# EAGLE library part 18024115401H (library WPME-CDIP)
WPME-CDIP Capacitive Digital Isolator Powered Characteristics Industrial standard package and pin configuration Integrated DC/DC power converter Signal transmission in high-speed applications (data rate up to 100 Mbps) High level of immunity to system noise (CMTI ±150 kV/µs) UL 1577 approval Low conducted and radiated EMI (compliant to EN55032 class B / CISPR-32) Applications Communication bus isolation Motor Control Industrial SMPS Test and measurement systems Microcontroller and DSP application Industrial automation Programmable logic controller (PLC) interfaces Battery management systems Solar inverters <https://www.we-online.com/components/media/o758938v209%20multi-parts-WPM-CDIP-18024015401H.jpg> Details see: www.we-online.com/en/components/products/DIGITAL-ISOLATORS-WPME-CDIP <www.we-online.com/catalog/DIGITAL-ISOLATORS-WPME-CDIP/?utm_source=eagle_model&utm_medium=description_link&utm_campaign=eisos_eagle> Updated by Ella Wu 2023-10-18 2023 (C) Wurth Elektronik
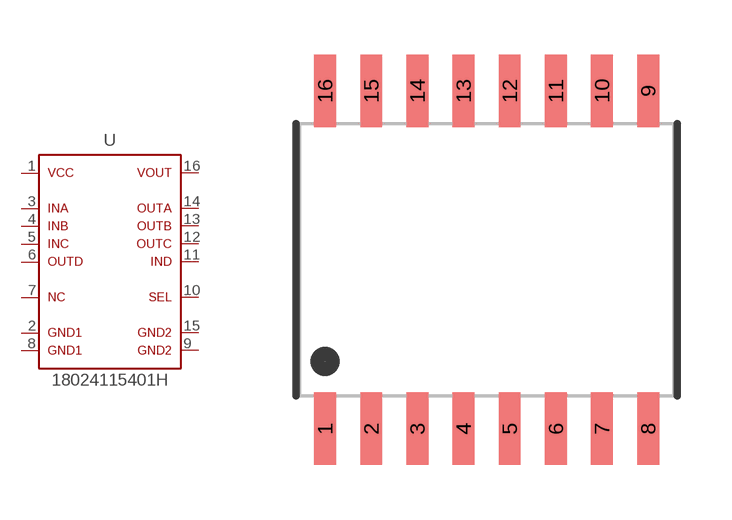
[diagram p1: symbol with the pads of WPME-CDIP_SOIC16; footprint WPME-CDIP_SOIC16]

Designator prefix U

## 18024115401H (CHANNEL-CONFIGURATION: 3/1; CMTI: 150kV/us; DATASHEET-URL: https://www.we-online.com/redexpert/spec/18024115401H?ae; DR: 100Mbps; MOUNT: SMT; PART-NUMBER: 18024115401H; TPLH-TPHL: 10ns; VALUE: 18024115401H; VCC-MAX: 5.5V; VCC-MIN: 3.15V; VISO: 5000V(RMS))  [WPME-CDIP_SOIC16]
1  1  pas
2  2  pas
3  3  pas
4  4  pas
5  5  pas
6  6  pas
7  7  pas
8  8  pas
9  9  pas
10  10  pas
11  11  pas
12  12  pas
13  13  pas
14  14  pas
15  15  pas
16  16  pas

## Footprint WPME-CDIP_SOIC16 (pad centres in mm)
WPME-CDIP Capacitive Digital Isolator Powered Size: SOIC 16WB, SMT, 16pins LXWXH = 10.3X7.5X2.3mm
smd 0.6 x 2: 1 -4.445,-4.65; 2 -3.175,-4.65; 3 -1.905,-4.65; 4 -0.635,-4.65; 5 0.635,-4.65; 6 1.905,-4.65; 7 3.175,-4.65; 8 4.445,-4.65; 9 4.445,4.65; 10 3.175,4.65; 11 1.905,4.65; 12 0.635,4.65; 13 -0.635,4.65; 14 -1.905,4.65; 15 -3.175,4.65; 16 -4.445,4.65